# EAGLE library part PINHEAD11SMD (library HeRo)
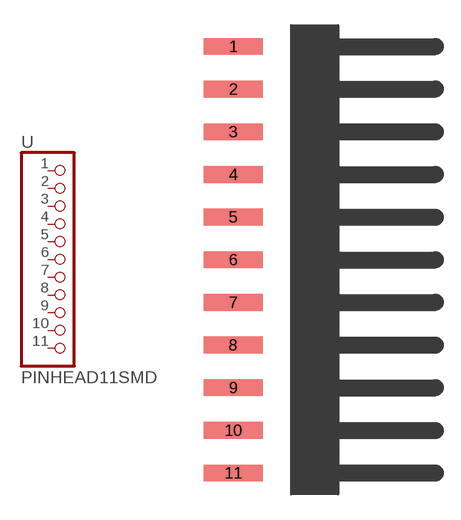
[diagram p2: symbol with the pads of PINHD11SMD; footprint PINHD11SMD]

Designator prefix -

## PINHEAD11SMD  [PINHD11SMD]
1  1  pas
2  2  pas
3  3  pas
4  4  pas
5  5  pas
6  6  pas
7  7  pas
8  8  pas
9  9  pas
10  10  pas
11  11  pas

## Footprint PINHD11SMD (pad centres in mm)
smd 3.5 x 1: 1 -5.08,12.7; 2 -5.08,10.16; 3 -5.08,7.62; 4 -5.08,5.08; 5 -5.08,2.54; 6 -5.08,0; 7 -5.08,-2.54; 8 -5.08,-5.08; 9 -5.08,-7.62; 10 -5.08,-10.16; 11 -5.08,-12.7